# Altium footprint library SamacSys.PcbLib: 70 footprints (part 5 of 5)
Each footprint in its own frame and in the unit in brackets; x right, y up, seen from the top. Pads: shape width x height; smd on the part's side, far side on the other; paste and mask are expansions set on the pad; w line width, h text height; cw(c..) or ccw(c..) is an arc to the next point about the centre after c.
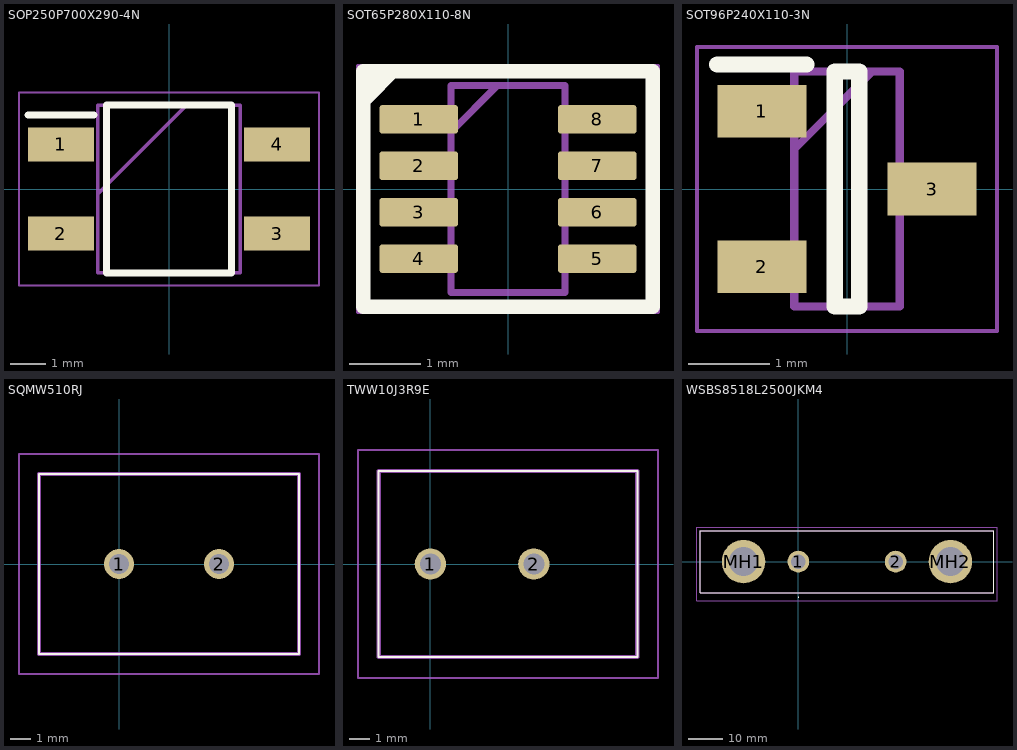
[diagram p4: the footprints below, top view; thin cyan lines are the x and y axes]

## SOP250P700X290-4N [mm]
pads (4):
  rect 1.85x0.95 smd: 1(-3.025,1.25) 2(-3.025,-1.25) 3(3.025,-1.25) 4(3.025,1.25)
Top Overlay:
  lines w0.2: -3.95,2.075 -2.1,2.075 ; -1.75,-2.35 -1.75,2.35 1.75,2.35 1.75,-2.35 -1.75,-2.35
Mechanical 13:
  lines w0.1: -2,-0.15 0.5,2.35 ; -2,-2.35 -2,2.35 2,2.35 2,-2.35 -2,-2.35
Mechanical 15:
  lines w0.05: -4.2,-2.7 -4.2,2.7 4.2,2.7 4.2,-2.7 -4.2,-2.7
3D body "CDBHM240L-HF.stp": height 2.9, standoff 0, extent -3.5,-2.35 3.5,2.35

## SOT65P280X110-8N [mm]
pads (8):
  rrect20% 1.1x0.4 smd: 1(-1.25,0.975) 2(-1.25,0.325) 3(-1.25,-0.325) 4(-1.25,-0.975) 5(1.25,-0.975) 6(1.25,-0.325) 7(1.25,0.325) 8(1.25,0.975)
Top Overlay:
  region: -1.998,1.127 -1.452,1.673 -2.027,1.673
  lines w0.2: -2.025,-1.65 2.025,-1.65 2.025,1.65 -2.025,1.65 -2.025,-1.65
Mechanical 13:
  lines w0.1: -0.8,0.8 -0.15,1.45 ; -0.8,-1.45 0.8,-1.45 0.8,1.45 -0.8,1.45 -0.8,-1.45
Mechanical 15:
  lines w0.05: -2.1,-1.725 2.1,-1.725 2.1,1.725 -2.1,1.725 -2.1,-1.725
3D body "LM393BIDDFR.stp": height 1.1, standoff 0, extent -1.4,-1.45 1.4,1.45

## SOT96P240X110-3N [mm]
pads (3):
  rect 1.1x0.65 smd: 1(-1.05,0.96) 2(-1.05,-0.96) 3(1.05,0)
Top Overlay:
  lines w0.2: -1.6,1.535 -0.5,1.535 ; -0.15,-1.45 -0.15,1.45 0.15,1.45 0.15,-1.45 -0.15,-1.45
Mechanical 13:
  lines w0.1: -0.65,0.49 0.31,1.45 ; -0.65,-1.45 -0.65,1.45 0.65,1.45 0.65,-1.45 -0.65,-1.45
Mechanical 15:
  lines w0.05: -1.85,-1.75 -1.85,1.75 1.85,1.75 1.85,-1.75 -1.85,-1.75
3D body "AP7384-50SA-7.stp": height 1.1, standoff 0, extent -1.2,-1.45 1.2,1.45

## SQMW510RJ [mm]
pads (2):
  round 1.5 hole 1: 1(0,0) 2(5,0)
Top Overlay:
  lines w0.1: -4,-4.5 9,-4.5 9,4.5 -4,4.5 -4,-4.5
Mechanical 13:
  lines w0.2: -4,-4.5 9,-4.5 9,4.5 -4,4.5 -4,-4.5
Mechanical 15:
  lines w0.1: -5,-5.5 10,-5.5 10,5.5 -5,5.5 -5,-5.5
3D body "SQMW510RJ.stp": height 26.1, standoff -5, extent -4,-4.5 9,4.5

## TWW10J3R9E [mm]
pads (2):
  round 1.518 hole 1.012: 1(0,0) 2(5,0)
Top Overlay:
  lines w0.1: -2.5,-4.5 10,-4.5 10,4.5 -2.5,4.5 -2.5,-4.5
Mechanical 13:
  lines w0.2: -2.5,-4.5 10,-4.5 10,4.5 -2.5,4.5 -2.5,-4.5
Mechanical 15:
  lines w0.1: -3.5,-5.5 11,-5.5 11,5.5 -3.5,5.5 -3.5,-5.5
3D body "TWW10J3R9E.stp": height 51.1, standoff -5, extent -2.5,-4.5 10,4.5

## WSBS8518L2500JKM4 [mm]
pads (4):
  round 6.3 hole 4.2: 1(0,0) 2(28.2,0)
  round 12.6 hole 8.4: MH1(-15.9,0) MH2(44.1,0)
Top Overlay:
  lines w0.1: -28.4,-9 -28.4,9 56.6,9 56.6,-9 -28.4,-9
  lines w0.2: 0,-10.4 ccw(c0,-10.35) 0,-10.3 ; 0,-10.4 cw(c0,-10.35) 0,-10.3 ; 0,-10.4 ccw(c0,-10.35) 0,-10.3
Mechanical 13:
  lines w0.2: -28.4,-9 -28.4,9 56.6,9 56.6,-9 -28.4,-9
Mechanical 15:
  lines w0.1: -29.4,-11.4 -29.4,10 57.6,10 57.6,-11.4 -29.4,-11.4
3D body "WSBS8518L2500JKM4.stp": height 3.1, standoff -5, extent -28.4,-9 56.6,9